# EAGLE library part S25FS-S (library fbri)
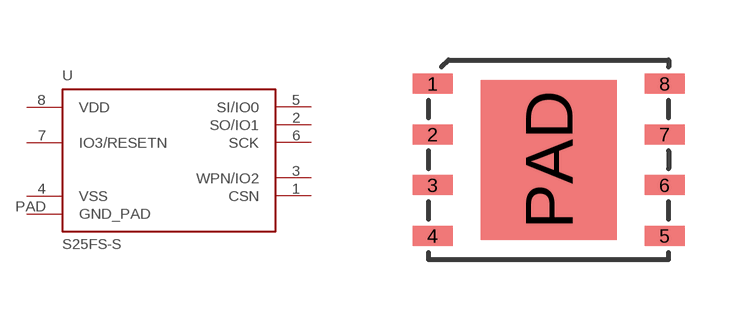
[diagram p4: symbol with the pads of WSON8; footprint WSON8]

Designator prefix -

## S25FS-S  [WSON8]
1  CSN  in
2  SO/IO1  out
3  WPN/IO2  out
4  VSS  pwr
5  SI/IO0
6  SCK  in
7  IO3/RESETN  out
8  VDD  pwr
PAD  GND_PAD  pwr

## Footprint WSON8 (pad centres in mm)
smd 1 x 0.5: 1 -2.9,1.905; 2 -2.9,0.635; 3 -2.9,-0.635; 4 -2.9,-1.905; 5 2.9,-1.905; 6 2.9,-0.635; 7 2.9,0.635; 8 2.9,1.905
smd 3.4 x 4: PAD 0,0